# EAGLE library part TXS0101 (library parts)
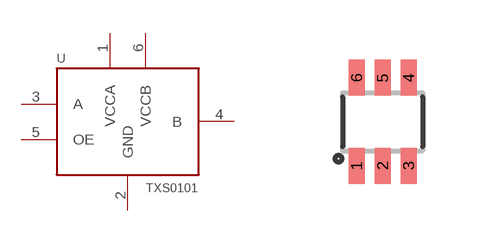
[diagram p4: symbol with the pads of SC70-6; footprint SC70-6]

Designator prefix U

## TXS0101DCK  [SC70-6]
1  VCCA
2  GND
3  A
4  B
5  OE
6  VCCB

## Footprint SC70-6 (pad centres in mm)
smd 0.4 x 0.9: 1 -0.65,-1.1; 2 0,-1.1; 3 0.65,-1.1; 4 0.65,1.1; 5 0,1.1; 6 -0.65,1.1